# Altium footprint library Inductors.PcbLib: 3 footprints
Each footprint in its own frame and in the unit in brackets; x right, y up, seen from the top. Pads: shape width x height; smd on the part's side, far side on the other; paste and mask are expansions set on the pad; w line width, h text height; cw(c..) or ccw(c..) is an arc to the next point about the centre after c.
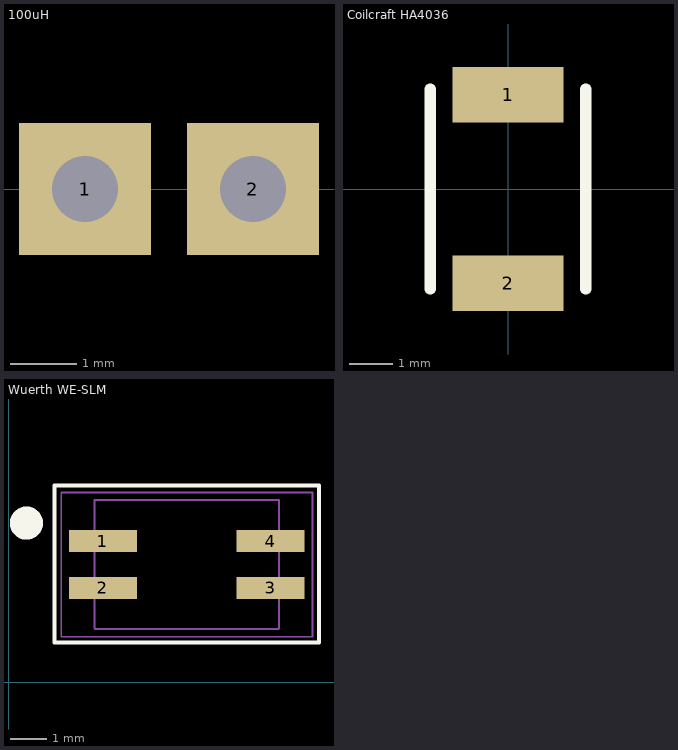
[diagram p0: the footprints below, top view; thin cyan lines are the x and y axes]

## 100uH [mm]
pads (2):
  rect 2x2 hole 1: 1(2.54,0) 2(5.08,0)
3D body: height 7.46, standoff -1.5, extent 1.49,-1.034 5.303,1.034

## Coilcraft HA4036 [mil]
height 104.72
pads (2):
  rect 100x50 smd: 1(0,85) 2(0,-85)
Top Overlay:
  lines w10: -70,-90 -70,90 ; 70,-90 70,90
3D body: height 124.02, standoff 0, extent -70,-90 70,90

## Wuerth WE-SLM [mm] "Wuerth SMD Common Mode Line Filter 744242510"
pads (4):
  rect 1.85x0.6 smd: 1(2.56,3.835) 2(2.56,2.565) 3(7.11,2.565) 4(7.11,3.835)
Top Overlay:
  circle w0.5: c0.48,4.325 r0.2
  lines w0.1: 1.245,1.085 1.245,5.345 8.425,5.345 8.425,1.085 1.245,1.085
Mechanical 4:
  lines w0.05: 2.33,1.475 2.33,4.95 7.335,4.95 ; 2.335,1.45 7.33,1.45 ; 7.335,1.46 7.335,4.925
Mechanical 16:
  lines w0.05: 1.425,1.24 1.425,5.155 8.25,5.155 8.25,1.24 1.425,1.24